# Altium schematic symbol library kicker_andrei.SchLib: 4 symbols
Pins are listed as number, name and electrical type; pins without a type are passive.

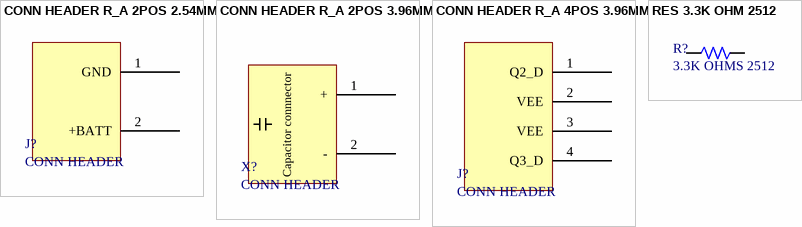
[diagram p0: symbols CONN HEADER R_A 2POS 2.54MM to RES 3.3K OHM 2512]

## CONN HEADER R_A 2POS 2.54MM
designator J?, comment CONN HEADER
Conn Wire to Board HDR 2 POS 2.54mm Solder RA Thru-Hole Bag; Manufacturer 1: Molex; Gender: Male; Number of Circuits: 2; Contact Resistance: 10mR; Max Current Rating: 4A; Max Voltage Rating (AC): 250V; Glow Wire Compliant: Non-compliant; Approvals: UL,CSA; Supplier 1: Digi-Key; Manufacturer Part Number 1: 22-05-3021; Stock 1: 15372; Pricing 1: 1=0,34000, 10=0,31700, 100=0,22200, 500=0,19026, 1000=0,15855, 5000=0,13590, 10000=0,12684 (USD); RoHS: Yes; Mount: Through Hole; Housing Color: White; Housing Material: Nylon; Contact Material: Brass; Contact Plating: Tin,Copper; Color: White; Min Operating Temperature: 0°C; Max Operating Temperature: 75°C; Orientation: Right Angle; Number of Positions: 2; Termination: Through Hole; Number of Rows: 1; Number of Contacts: 2; Voltage Rating: 250V; Current Rating: 4A; Packaging: Bulk; Package Quantity: 3000; Length: 5.08mm; Height: 6.35mm; Pitch: 2.54mm; Depth: 12.83mm; Radiation Hardening: No; REACH SVHC: Unknown; Halogen Free: Low Halogen; Lead Free: Lead Free; Flammability Rating: UL94 V-0; ComponentLink1URL: https://datasheet.ciiva.com/30078/51220022053021-pcb-headers-30078128.pdf?src-supplier=Onlinecomponents.com; ComponentLink1Description: https://datasheet.ciiva.com/30078/51220022053021-pcb-headers-30078128.pdf?src-supplier=Onlinecomponents.com; ComponentLink2URL: https://datasheet.ciiva.com/15217/getdatasheetpartid-149585-15217569.pdf?src-supplier=Verical; ComponentLink2Description: https://datasheet.ciiva.com/15217/getdatasheetpartid-149585-15217569.pdf?src-supplier=Verical; ComponentLink3URL: https://datasheet.ciiva.com/11746/0900766b80d8f337-11746227.pdf?src-supplier=RSComponents; ComponentLink3Description: https://datasheet.ciiva.com/11746/0900766b80d8f337-11746227.pdf?src-supplier=RSComponents; ComponentLink4URL: https://datasheet.ciiva.com/19461/1965824-19461009.pdf?src-supplier=Jameco; ComponentLink4Description: https://datasheet.ciiva.com/19461/1965824-19461009.pdf?src-supplier=Jameco; ComponentLink5URL: https://datasheet.ciiva.com/5158/0022053021-pcb-headers-158630-5158265.pdf?src-supplier=Mouser; ComponentLink5Description: https://datasheet.ciiva.com/5158/0022053021-pcb-headers-158630-5158265.pdf?src-supplier=Mouser; ComponentLink6URL: https://datasheet.ciiva.com/19460/233437-19460906.pdf?src-supplier=Jameco; ComponentLink6Description: https://datasheet.ciiva.com/19460/233437-19460906.pdf?src-supplier=Jameco; ComponentLink7URL: https://datasheet.ciiva.com/7920/1631484-7920683.pdf?src-supplier=Element14; ComponentLink7Description: https://datasheet.ciiva.com/7920/1631484-7920683.pdf?src-supplier=Element14; ComponentLink8URL: https://datasheet.ciiva.com/16725/0022053021-pcb-headers-16725597.pdf?src-supplier=Avnet+Europe; ComponentLink8Description: https://datasheet.ciiva.com/16725/0022053021-pcb-headers-16725597.pdf?src-supplier=Avnet+Europe; ComponentLink9URL: https://datasheet.ciiva.com/9468/0022053021-pcb-headers-9468406.pdf?src-supplier=Avnet; ComponentLink9Description: https://datasheet.ciiva.com/9468/0022053021-pcb-headers-9468406.pdf?src-supplier=Avnet; Supplier Part Number 1: 900-0022053021-ND
footprint CONN HEADER R_A 2POS 2.54MM (Conn Wire to Board HDR 2 POS 2.54mm Solder RA Thru-Hole Bag)
pins: 1 GND, 2 +BATT

## CONN HEADER R_A 2POS 3.96MM
designator X?, comment CONN HEADER
Conn Wire to Board HDR 2 POS 3.96mm Solder RA Thru-Hole KK® Bag; Manufacturer 1: Molex; Number of Positions: 2; Contact Resistance: 10mR; Gender: Male; Connector Type: Male Pin; Supplier 1: Digi-Key; Manufacturer Part Number 1: 26-60-5020; Stock 1: 7578; Pricing 1: 1=0,32000, 10=0,30300, 100=0,21240, 500=0,18202, 1000=0,15169, 5000=0,13002, 10000=0,12135 (USD); RoHS: Yes; Mount: Through Hole; Contact Plating: Tin,Copper; Contact Material: Bronze,Brass; Color: Natural; Housing Color: White; Housing Material: Polyester; Min Operating Temperature: 0°C; Max Operating Temperature: 75°C; Number of Rows: 1; Termination: Solder; Number of Contacts: 2; Fastening Type: Friction; Packaging: Bulk; Orientation: Right Angle; Length: 7.77mm; Pitch: 3.96mm; Contact Mating Length: 0.45inch; Depth: 23.14mm; ComponentLink1URL: https://datasheet.ciiva.com/711/026605020-sd-711883.pdf?src-supplier=Digi-Key; ComponentLink1Description: https://datasheet.ciiva.com/711/026605020-sd-711883.pdf?src-supplier=Digi-Key; ComponentLink2URL: https://datasheet.ciiva.com/22827/0900766b80d6bf1d-22827278.pdf?src-supplier=RSComponents; ComponentLink2Description: https://datasheet.ciiva.com/22827/0900766b80d6bf1d-22827278.pdf?src-supplier=RSComponents; ComponentLink3URL: https://datasheet.ciiva.com/30179/80070026605020-pcb-headers-30179412.pdf?src-supplier=Onlinecomponents.com; ComponentLink3Description: https://datasheet.ciiva.com/30179/80070026605020-pcb-headers-30179412.pdf?src-supplier=Onlinecomponents.com; ComponentLink4URL: https://datasheet.ciiva.com/15217/getdatasheetpartid-299439-15217821.pdf?src-supplier=Verical; ComponentLink4Description: https://datasheet.ciiva.com/15217/getdatasheetpartid-299439-15217821.pdf?src-supplier=Verical; Supplier Part Number 1: WM4640-ND
footprint CONN HEADER R_A 2POS 3.98MM (Connector Header Through Hole, Right Angle 2 position 0.156" (3.96mm))
pins: 1 +, 2 -
text: Capacitor connnector

## CONN HEADER R_A 4POS 3.96MM
designator J?, comment CONN HEADER
Headers & Wire Housings R/A PCB HDR 4P TIN FRICTION LOCK; Manufacturer 1: Molex; Number of Positions: 4; Gender: Male; Voltage Rating (DC): 250V; Insulation Resistance: 50GR; Number of Lines: 1; Contact Resistance: 10mR; Current Rating: 7A; Pitch: 3.96mm; Glow Wire Compliant: Non-compliant; Supplier 1: Arrow; Manufacturer Part Number 1: 26-60-5040; Stock 1: 13747; Pricing 1: 1=0,37980, 10=0,35730, 100=0,28160, 500=0,24650, 1000=0,20520, 5000=0,18050, 10000=0,16730, 1=0,42000, 10=0,39510, 100=0,31430, 500=0,27630, 1000=0,26400, 1=0,41740, 10=0,38930, 100=0,29830, 500=0,25770, 1000=0,21140, 5000=0,18430, 10000=0,17000 (USD); RoHS: Yes; Mount: Through Hole; Housing Color: Natural; Material: Polyester; Contact Plating: Tin,Copper; Contact Material: Brass,Bronze,Tin; Housing Material: Polyester; Min Operating Temperature: 0°C; Max Operating Temperature: 75°C; Termination: Solder; Number of Contacts: 4; Number of Circuits: 4; Orientation: Right Angle; Number of Rows: 1; Number of Poles: 4; Voltage Rating: 250V; Contact Gender: Male; Package Quantity: 350; Packaging: Bulk; Radiation Hardening: No; Flammability Rating: UL94 V-0; Lead Free: Lead Free; REACH SVHC: Unknown; ComponentLink1URL: https://datasheet.ciiva.com/19454/880132-19454025.pdf?src-supplier=Jameco; ComponentLink1Description: https://datasheet.ciiva.com/19454/880132-19454025.pdf?src-supplier=Jameco; ComponentLink2URL: https://datasheet.ciiva.com/10029/0026605040-pcb-headers-10029266.pdf?src-supplier=Avnet; ComponentLink2Description: https://datasheet.ciiva.com/10029/0026605040-pcb-headers-10029266.pdf?src-supplier=Avnet; ComponentLink3URL: https://datasheet.ciiva.com/7844/1631036-7844119.pdf?src-supplier=Element14; ComponentLink3Description: https://datasheet.ciiva.com/7844/1631036-7844119.pdf?src-supplier=Element14; ComponentLink4URL: https://datasheet.ciiva.com/5157/0026605040-pcb-headers-159671-5157677.pdf?src-supplier=Mouser; ComponentLink4Description: https://datasheet.ciiva.com/5157/0026605040-pcb-headers-159671-5157677.pdf?src-supplier=Mouser; ComponentLink5URL: https://datasheet.ciiva.com/11749/0900766b80d6bf1d-11749079.pdf?src-supplier=RSComponents; ComponentLink5Description: https://datasheet.ciiva.com/11749/0900766b80d6bf1d-11749079.pdf?src-supplier=RSComponents; ComponentLink6URL: https://datasheet.ciiva.com/30188/171410026605040-pcb-headers-30188011.pdf?src-supplier=Onlinecomponents.com; ComponentLink6Description: https://datasheet.ciiva.com/30188/171410026605040-pcb-headers-30188011.pdf?src-supplier=Onlinecomponents.com; Supplier Part Number 1: 26-60-5040
footprint CONN HEADER R_A 4POS 3.98MM (Connector Header Through Hole, Right Angle 4 position 0.156" (3.96mm))
pins: 1 Q2_D, 2 VEE, 3 VEE, 4 Q3_D

## RES 3.3K OHM 2512
designator R?, comment 3.3K OHMS 2512
RES SMD 3.3K OHM 1% 2W 2512; Manufacturer 1: Stackpole Electronics; Manufacturer Part Number 1: RHC2512FT3K30; Temperature Coefficient: 100ppm/°C; Resistance: 3.3kR; Supplier 1: Digi-Key; Stock 1: 1030; Pricing 1: 1=0,84000, 10=0,72600, 100=0,50600, 1000=0,29920 (USD); RoHS: Yes; Mount: Surface Mount; Case/Package: 2512; Case Code (Imperial): 2512; Contact Plating: Tin,Matte; Case Code (Metric): 6432; Min Operating Temperature: -55°C; Max Operating Temperature: 155°C; Max Power Dissipation: 2W; Features: Moisture Resistant; Composition: Thick Film; Number of Terminations: 2; Packaging: Tape and Reel; Tolerance: 1%; Power Rating: 2W; Length: 0.248inch; Height: 0.028inch; Width: 0.126inch; Radiation Hardening: No; Lead Free: Lead Free; ComponentLink1URL: https://www.seielect.com/Catalog/SEI-rhc.pdf?src-supplier=Avnet; ComponentLink1Description: https://www.seielect.com/Catalog/SEI-rhc.pdf?src-supplier=Avnet; ComponentLink2URL: https://www.seielect.com/Catalog/SEI-rhc.pdf?src-supplier=Digi-Key; ComponentLink2Description: https://www.seielect.com/Catalog/SEI-rhc.pdf?src-supplier=Digi-Key; Supplier Part Number 1: RHC2512FT3K30CT-ND
footprint RESISTOR_2512
pins: 1, 2